# Altium footprint library SEAM-40.PcbLib: 1 footprints
Each footprint in its own frame and in the unit in brackets; x right, y up, seen from the top. Pads: shape width x height; smd on the part's side, far side on the other; paste and mask are expansions set on the pad; w line width, h text height; cw(c..) or ccw(c..) is an arc to the next point about the centre after c.
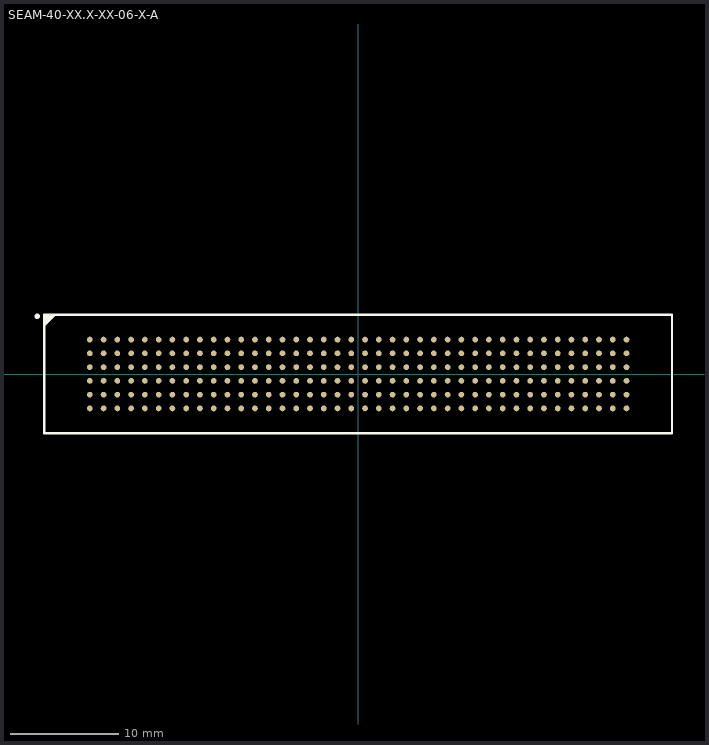
[diagram p0: the footprint, top view; thin cyan lines are the x and y axes]

## SEAM-40-XX.X-XX-06-X-A [mm] "SEAM-40, 100-Leads, Body 30.39x12.07mmx5.61mm, Pitch 1.27mm"
height 5.61
pads (240):
  round 0.53 smd: A1(-24.765,3.175) A2(-23.495,3.175) A3(-22.225,3.175) A4(-20.955,3.175) A5(-19.685,3.175) A6(-18.415,3.175) A7(-17.145,3.175) A8(-15.875,3.175) A9(-14.605,3.175) A10(-13.335,3.175) A11(-12.065,3.175) A12(-10.795,3.175) A13(-9.525,3.175) A14(-8.255,3.175) A15(-6.985,3.175) A16(-5.715,3.175) A17(-4.445,3.175) A18(-3.175,3.175) A19(-1.905,3.175) A20(-0.635,3.175) A21(0.635,3.175) A22(1.905,3.175) A23(3.175,3.175) A24(4.445,3.175) A25(5.715,3.175) A26(6.985,3.175) A27(8.255,3.175) A28(9.525,3.175) A29(10.795,3.175) A30(12.065,3.175) A31(13.335,3.175) A32(14.605,3.175) A33(15.875,3.175) A34(17.145,3.175) A35(18.415,3.175) A36(19.685,3.175) A37(20.955,3.175) A38(22.225,3.175) A39(23.495,3.175) A40(24.765,3.175) B1(-24.765,1.905) B2(-23.495,1.905) B3(-22.225,1.905) B4(-20.955,1.905) B5(-19.685,1.905) B6(-18.415,1.905) B7(-17.145,1.905) B8(-15.875,1.905) B9(-14.605,1.905) B10(-13.335,1.905) B11(-12.065,1.905) B12(-10.795,1.905) B13(-9.525,1.905) B14(-8.255,1.905) B15(-6.985,1.905) B16(-5.715,1.905) B17(-4.445,1.905) B18(-3.175,1.905) B19(-1.905,1.905) B20(-0.635,1.905) B21(0.635,1.905) B22(1.905,1.905) B23(3.175,1.905) B24(4.445,1.905) B25(5.715,1.905) B26(6.985,1.905) B27(8.255,1.905) B28(9.525,1.905) B29(10.795,1.905) B30(12.065,1.905) B31(13.335,1.905) B32(14.605,1.905) B33(15.875,1.905) B34(17.145,1.905) B35(18.415,1.905) B36(19.685,1.905) B37(20.955,1.905) B38(22.225,1.905) B39(23.495,1.905) B40(24.765,1.905) C1(-24.765,0.635) C2(-23.495,0.635) C3(-22.225,0.635) C4(-20.955,0.635) C5(-19.685,0.635) C6(-18.415,0.635) C7(-17.145,0.635) C8(-15.875,0.635) C9(-14.605,0.635) C10(-13.335,0.635) C11(-12.065,0.635) C12(-10.795,0.635) C13(-9.525,0.635) C14(-8.255,0.635) C15(-6.985,0.635) C16(-5.715,0.635) C17(-4.445,0.635) C18(-3.175,0.635) C19(-1.905,0.635) C20(-0.635,0.635) C21(0.635,0.635) C22(1.905,0.635) C23(3.175,0.635) C24(4.445,0.635) C25(5.715,0.635) C26(6.985,0.635) C27(8.255,0.635) C28(9.525,0.635) C29(10.795,0.635) C30(12.065,0.635) C31(13.335,0.635) C32(14.605,0.635) C33(15.875,0.635) C34(17.145,0.635) C35(18.415,0.635) C36(19.685,0.635) C37(20.955,0.635) C38(22.225,0.635) C39(23.495,0.635) C40(24.765,0.635) D1(-24.765,-0.635) D2(-23.495,-0.635) D3(-22.225,-0.635) D4(-20.955,-0.635) D5(-19.685,-0.635) D6(-18.415,-0.635) D7(-17.145,-0.635) D8(-15.875,-0.635) D9(-14.605,-0.635) D10(-13.335,-0.635) D11(-12.065,-0.635) D12(-10.795,-0.635) D13(-9.525,-0.635) D14(-8.255,-0.635) D15(-6.985,-0.635) D16(-5.715,-0.635) D17(-4.445,-0.635) D18(-3.175,-0.635) D19(-1.905,-0.635) D20(-0.635,-0.635) D21(0.635,-0.635) D22(1.905,-0.635) D23(3.175,-0.635) D24(4.445,-0.635) D25(5.715,-0.635) D26(6.985,-0.635) D27(8.255,-0.635) D28(9.525,-0.635) D29(10.795,-0.635) D30(12.065,-0.635) D31(13.335,-0.635) D32(14.605,-0.635) D33(15.875,-0.635) D34(17.145,-0.635) D35(18.415,-0.635) D36(19.685,-0.635) D37(20.955,-0.635) D38(22.225,-0.635) D39(23.495,-0.635) D40(24.765,-0.635) E1(-24.765,-1.905) E2(-23.495,-1.905) E3(-22.225,-1.905) E4(-20.955,-1.905) E5(-19.685,-1.905) E6(-18.415,-1.905) E7(-17.145,-1.905) E8(-15.875,-1.905) E9(-14.605,-1.905) E10(-13.335,-1.905) E11(-12.065,-1.905) E12(-10.795,-1.905) E13(-9.525,-1.905) E14(-8.255,-1.905) E15(-6.985,-1.905) E16(-5.715,-1.905) E17(-4.445,-1.905) E18(-3.175,-1.905) E19(-1.905,-1.905) E20(-0.635,-1.905) E21(0.635,-1.905) E22(1.905,-1.905) E23(3.175,-1.905) E24(4.445,-1.905) E25(5.715,-1.905) E26(6.985,-1.905) E27(8.255,-1.905) E28(9.525,-1.905) E29(10.795,-1.905) E30(12.065,-1.905) E31(13.335,-1.905) E32(14.605,-1.905) E33(15.875,-1.905) E34(17.145,-1.905) E35(18.415,-1.905) E36(19.685,-1.905) E37(20.955,-1.905) E38(22.225,-1.905) E39(23.495,-1.905) E40(24.765,-1.905) F1(-24.765,-3.175) F2(-23.495,-3.175) F3(-22.225,-3.175) F4(-20.955,-3.175) F5(-19.685,-3.175) F6(-18.415,-3.175) F7(-17.145,-3.175) F8(-15.875,-3.175) F9(-14.605,-3.175) F10(-13.335,-3.175) F11(-12.065,-3.175) F12(-10.795,-3.175) F13(-9.525,-3.175) F14(-8.255,-3.175) F15(-6.985,-3.175) F16(-5.715,-3.175) F17(-4.445,-3.175) F18(-3.175,-3.175) F19(-1.905,-3.175) F20(-0.635,-3.175) F21(0.635,-3.175) F22(1.905,-3.175) F23(3.175,-3.175) F24(4.445,-3.175) F25(5.715,-3.175) F26(6.985,-3.175) F27(8.255,-3.175) F28(9.525,-3.175) F29(10.795,-3.175) F30(12.065,-3.175) F31(13.335,-3.175) F32(14.605,-3.175) F33(15.875,-3.175) F34(17.145,-3.175) F35(18.415,-3.175) F36(19.685,-3.175) F37(20.955,-3.175) F38(22.225,-3.175) F39(23.495,-3.175) F40(24.765,-3.175)
Top Overlay:
  circle w0.25: c-29.625,5.325 r0.125
  region: -27.975,5.475 -28.975,4.475 -28.975,5.475
  lines w0.2: -28.975,4.475 -27.975,5.475 ; -28.975,-5.475 28.975,-5.475 28.975,5.475 -28.975,5.475 -28.975,-5.475
Mechanical 13:
  lines w0.1: -28.98,-5.48 28.98,-5.48 28.98,5.48 -28.98,5.48 -28.98,-5.48
3D body "SEAM-40-XX.X-XX-06-X-A.step": height 5.61, standoff 0, extent -28.853,-6.548 29.107,6.731